# Altium schematic symbol library PESDxS2UT.Schlib: 1 symbol
Pins are listed as number, name and electrical type; pins without a type are passive.

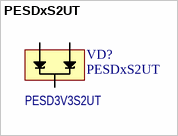
[diagram p0: symbol PESDxS2UT]

## PESDxS2UT
designator VD?  Наименование: PESD3V3S2UT
Double ESD protection diodes; Потребление, Вт: 0; Назначение: Double ESD protection diodes; ComponentLink1Description: DataSheet; ComponentLink1URL: https://assets.nexperia.com/documents/data-sheet/PESDXS2UT_SERIES.pdf
footprint SOT-23
pins: 1 C1 "Cathod 1", 2 C2 "Cathod 2", 3 C3 "Common anode"